# Altium footprint library 74439346100.PcbLib: 1 footprints
Each footprint in its own frame and in the unit in brackets; x right, y up, seen from the top. Pads: shape width x height; smd on the part's side, far side on the other; paste and mask are expansions set on the pad; w line width, h text height; cw(c..) or ccw(c..) is an arc to the next point about the centre after c.
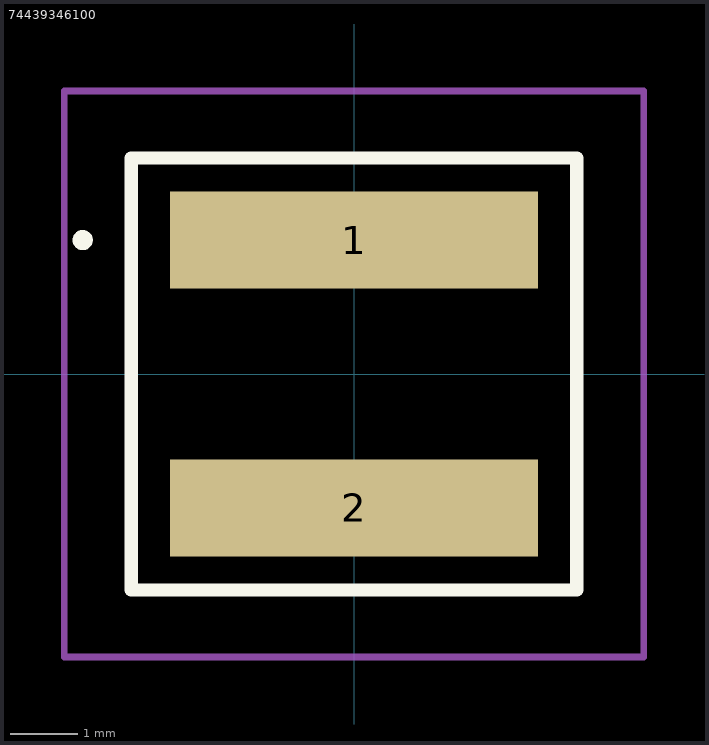
[diagram p0: the footprint, top view; thin cyan lines are the x and y axes]

## 74439346100 [mm]
pads (2):
  rect 5.5x1.45 smd: 1(0,2) 2(0,-2)
Top Overlay:
  lines w0.2: -4.1,2 -4.1,2 ; -4.1,2 ccw(c-4.05,2) -4,2 ; -4.1,2 cw(c-4.05,2) -4,2 ; -4.1,2 -4.1,2 ; -4.1,2 ccw(c-4.05,2) -4,2 ; -4,2 -4,2 ; -3.325,-3.225 3.325,-3.225 3.325,3.225 -3.325,3.225 -3.325,-3.225
Mechanical 15:
  lines w0.1: -3.325,-3.225 3.325,-3.225 3.325,3.225 -3.325,3.225 -3.325,-3.225
Mechanical 20:
  lines w0.1: -4.325,-4.225 4.325,-4.225 4.325,4.225 -4.325,4.225 -4.325,-4.225